# Altium footprint library WIRE_WOUND.PcbLib: 9 footprints
Each footprint in its own frame and in the unit in brackets; x right, y up, seen from the top. Pads: shape width x height; smd on the part's side, far side on the other; paste and mask are expansions set on the pad; w line width, h text height; cw(c..) or ccw(c..) is an arc to the next point about the centre after c.
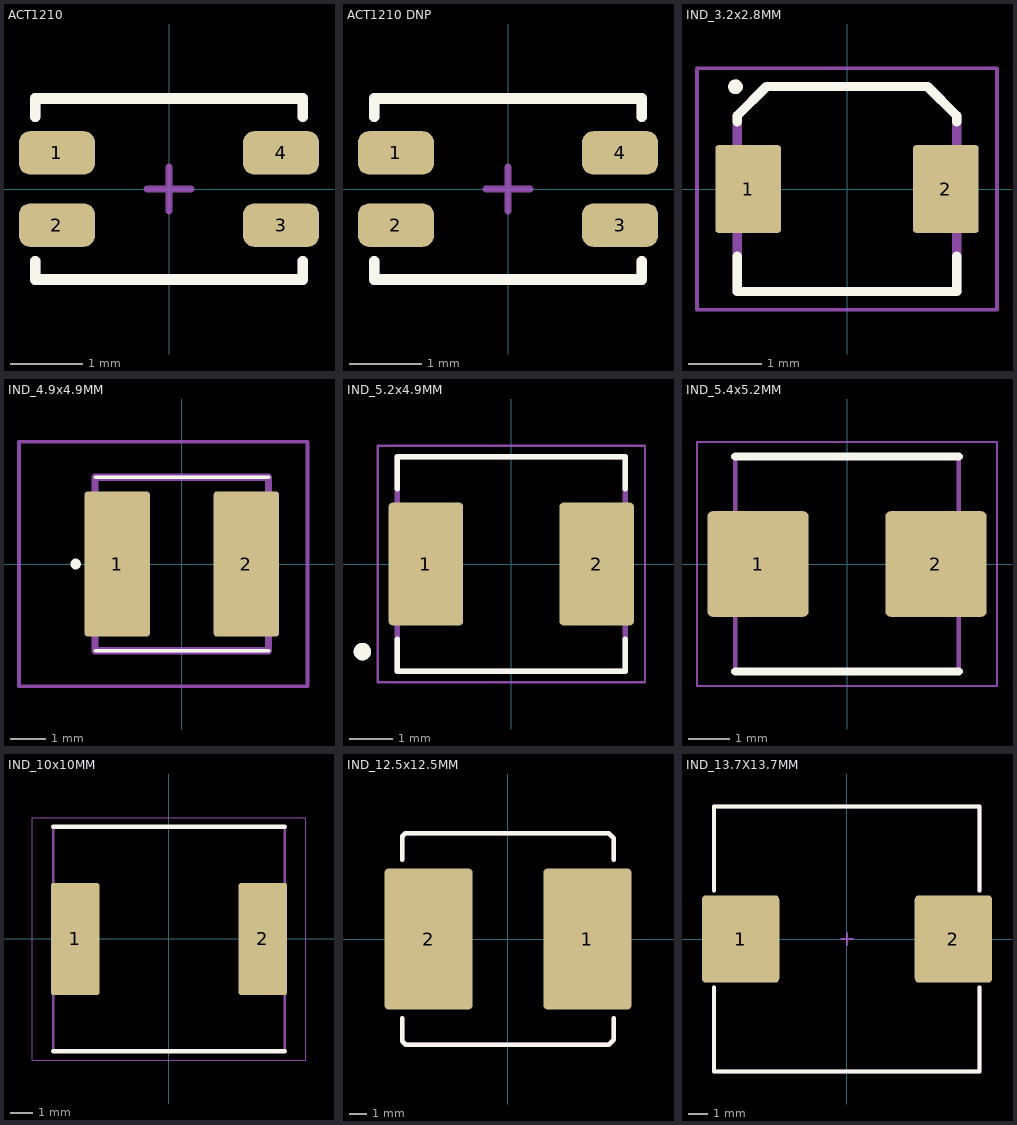
[diagram p0: the footprints below, top view; thin cyan lines are the x and y axes]

## ACT1210 [mm] "ACT1210-510-2P-TL00"
height 2.5
pads (4):
  rrect50% 1.05x0.6 smd mask+0.05: 1(-1.55,0.5) 2(-1.55,-0.5) 3(1.55,-0.5) 4(1.55,0.5)
Top Overlay:
  lines w0.15: -1.85,-1 -1.85,-1.25 1.85,-1.25 1.85,-1 ; -1.85,1 -1.85,1.25 1.85,1.25 1.85,1
Mechanical 15:
  lines w0.1: -0.3,0 0.3,0 ; 0,-0.3 0,0.3
Mechanical 29:
  lines w0.15: -1.85,-1 -1.85,-1.25 1.85,-1.25 1.85,-1 ; -1.85,1 -1.85,1.25 1.85,1.25 1.85,1
  text "'.Designator'" at -1.534,-0.143 h0.64
3D body "act1210.step": height 2.36, standoff 0.01, extent -1.85,-1.25 1.85,1.25

## ACT1210 DNP [mm] "DNP"
height 2.5
pads (4):
  rrect50% 1.05x0.6 smd mask+0.05: 1(-1.55,0.5) 2(-1.55,-0.5) 3(1.55,-0.5) 4(1.55,0.5)
Top Overlay:
  lines w0.15: -1.85,-1 -1.85,-1.25 1.85,-1.25 1.85,-1 ; -1.85,1 -1.85,1.25 1.85,1.25 1.85,1
Mechanical 15:
  lines w0.1: -0.3,0 0.3,0 ; 0,-0.3 0,0.3
Mechanical 29:
  lines w0.15: -1.85,-1 -1.85,-1.25 1.85,-1.25 1.85,-1 ; -1.85,1 -1.85,1.25 1.85,1.25 1.85,1

## IND_3.2x2.8MM [mm]
pads (2):
  rrect10% 0.9x1.2 smd: 1(-1.35,0) 2(1.35,0)
Top Overlay:
  circle w0.1: c-1.524,1.397 r0.05
  lines w0.127: -1.5,-0.92 -1.5,-1.4 1.5,-1.4 1.5,-0.92 ; -1.5,0.92 -1.5,1 -1.1,1.4 1.1,1.4 1.5,1 1.5,0.92
Mechanical 15:
  lines w0.05: -2.05,-1.65 2.05,-1.65 2.05,1.65 -2.05,1.65 -2.05,-1.65
Mechanical 29:
  circle w0.1: c-1.524,1.397 r0.05
  lines w0.127: -1.5,-1.4 1.5,-1.4 1.5,1 1.1,1.4 -1.1,1.4 -1.5,1 -1.5,-1.4
  text "'.Designator'" at -1.448,-0.135 h0.6
3D body "step_temp.STEP": height 1.8, standoff 0, extent -1.5,-1.4 1.5,1.4

## IND_4.9x4.9MM [mm]
pads (2):
  rrect10% 1.85x4.1 smd: 1(-1.825,0) 2(1.825,0)
Top Overlay:
  lines w0.1: -2.45,-2.45 2.45,-2.45 -2.45,-2.45 ; -2.45,2.45 2.45,2.45 -2.45,2.45
  lines w0.2: -3.05,0 ccw(c-3,0) -2.95,0 ; -3.05,0 cw(c-3,0) -2.95,0 ; -3.05,0 ccw(c-3,0) -2.95,0
Mechanical 15:
  lines w0.1: -4.6,-3.45 -4.6,3.45 3.55,3.45 3.55,-3.45 -4.6,-3.45
Mechanical 29:
  lines w0.2: -2.45,-2.45 -2.45,2.45 2.45,2.45 2.45,-2.45 -2.45,-2.45
  text "'.Designator'" at -1.84,-0.172 h0.76
3D body "3D_Inductor_Taiyo Yuden_NRS5030.stp": height 3.01, standoff 0.01, extent -2.45,-2.45 2.45,2.45

## IND_5.2x4.9MM [mm]
pads (2):
  rrect10% 1.7x2.8 smd: 1(-1.95,0) 2(1.95,0)
Top Overlay:
  circle w0.2: c-3.4,-2 r0.1
  lines w0.127: -2.6,-1.72 -2.6,-2.45 2.6,-2.45 2.6,-1.72 ; -2.6,1.72 -2.6,2.45 2.6,2.45 2.6,1.72
Mechanical 15:
  lines w0.05: -3.05,-2.7 3.05,-2.7 3.05,2.7 -3.05,2.7 -3.05,-2.7
Mechanical 29:
  circle w0.2: c-3.4,-2 r0.1
  lines w0.127: -2.6,-2.45 2.6,-2.45 2.6,2.45 -2.6,2.45 -2.6,-2.45
  text "'.Designator'" at -1.84,-0.172 h0.76
3D body "step_temp.STEP": height 1.8, standoff 0, extent -2.6,-2.471 2.6,2.45

## IND_5.4x5.2MM [mm]
pads (2):
  rrect10% 2.45x2.55 smd: 1(-2.15,0) 2(2.15,0)
Top Overlay:
  lines w0.2: -2.7,-2.6 2.7,-2.6 ; -2.7,2.6 2.7,2.6
Mechanical 15:
  lines w0.05: -3.625,-2.95 3.625,-2.95 3.625,2.95 -3.625,2.95 -3.625,-2.95
Mechanical 29:
  lines w0.1: -2.7,-2.6 2.7,-2.6 2.7,2.6 -2.7,2.6 -2.7,-2.6
  text "'.Designator'" at -1.84,-0.172 h0.76
3D body "0530CDMCCDS-3R3MC.stp": height 3, standoff 0, extent -2.7,-2.6 2.7,2.6

## IND_10x10MM [mm]
pads (2):
  rrect10% 2.15x5 smd: 1(-4.175,0) 2(4.175,0)
Top Overlay:
  lines w0.2: -5.15,-5 5.15,-5 ; -5.15,5 5.15,5
Mechanical 13:
  lines w0.1: -5.15,-5 5.15,-5 5.15,5 -5.15,5 -5.15,-5
Mechanical 15:
  lines w0.05: -6.075,-5.4 6.075,-5.4 6.075,5.4 -6.075,5.4 -6.075,-5.4
Mechanical 29:
  text "'.Designator'" at -2.457,-0.23 h1.02
3D body "1274AS-H-100M=P3.STEP": height 5.01, standoff 0.01, extent -5,-5 5,5

## IND_12.5x12.5MM [mm]
height 5
pads (2):
  rrect10% 5x8 smd: 1(4.508,0) 2(-4.5,0)
Top Overlay:
  lines w0.254: -6,-4.48 -6,-5.792 -5.792,-6 5.712,-6 6,-5.712 6,-4.48 ; -6,4.48 -6,5.824 -5.824,6 5.712,6 6,5.712 6,4.48
Mechanical 29:
  lines w0.254: -6,-4.48 -6,-5.792 -5.792,-6 5.712,-6 6,-5.712 6,-4.48 ; -6,4.48 -6,5.824 -5.824,6 5.712,6 6,5.712 6,4.48
  text "'.Designator'" at -4.216,-0.22 h1.02
3D body "pm127sh-330m-rc.stp": height 7.51, standoff 0.01, extent -6.25,-6.25 6.25,6.25

## IND_13.7X13.7MM [mm]
pads (2):
  rrect10% 4x4.5 smd mask+0.05: 1(-5.5,0) 2(5.5,0)
Top Overlay:
  lines w0.2: -6.875,-2.5 -6.875,-6.85 6.85,-6.85 6.85,-2.5 ; -6.875,2.5 -6.875,6.85 6.85,6.85 6.85,2.5
Mechanical 15:
  lines w0.1: -0.3,0 0.3,0 ; 0,-0.3 0,0.3
Mechanical 29:
  lines w0.2: -6.875,-2.5 -6.875,-6.85 6.85,-6.85 6.85,-2.5 ; -6.875,2.5 -6.875,6.85 6.85,6.85 6.85,2.5
  text "'.Designator'" at -3.068,-0.287 h1.27
3D body "srp1270.stp": height 7.01, standoff 0.01, extent -6.85,-6.85 6.85,6.85